# Altium footprint library Specific Footprints.PcbLib: 54 footprints (part 3 of 4)
Each footprint in its own frame and in the unit in brackets; x right, y up, seen from the top. Pads: shape width x height; smd on the part's side, far side on the other; paste and mask are expansions set on the pad; w line width, h text height; cw(c..) or ccw(c..) is an arc to the next point about the centre after c.
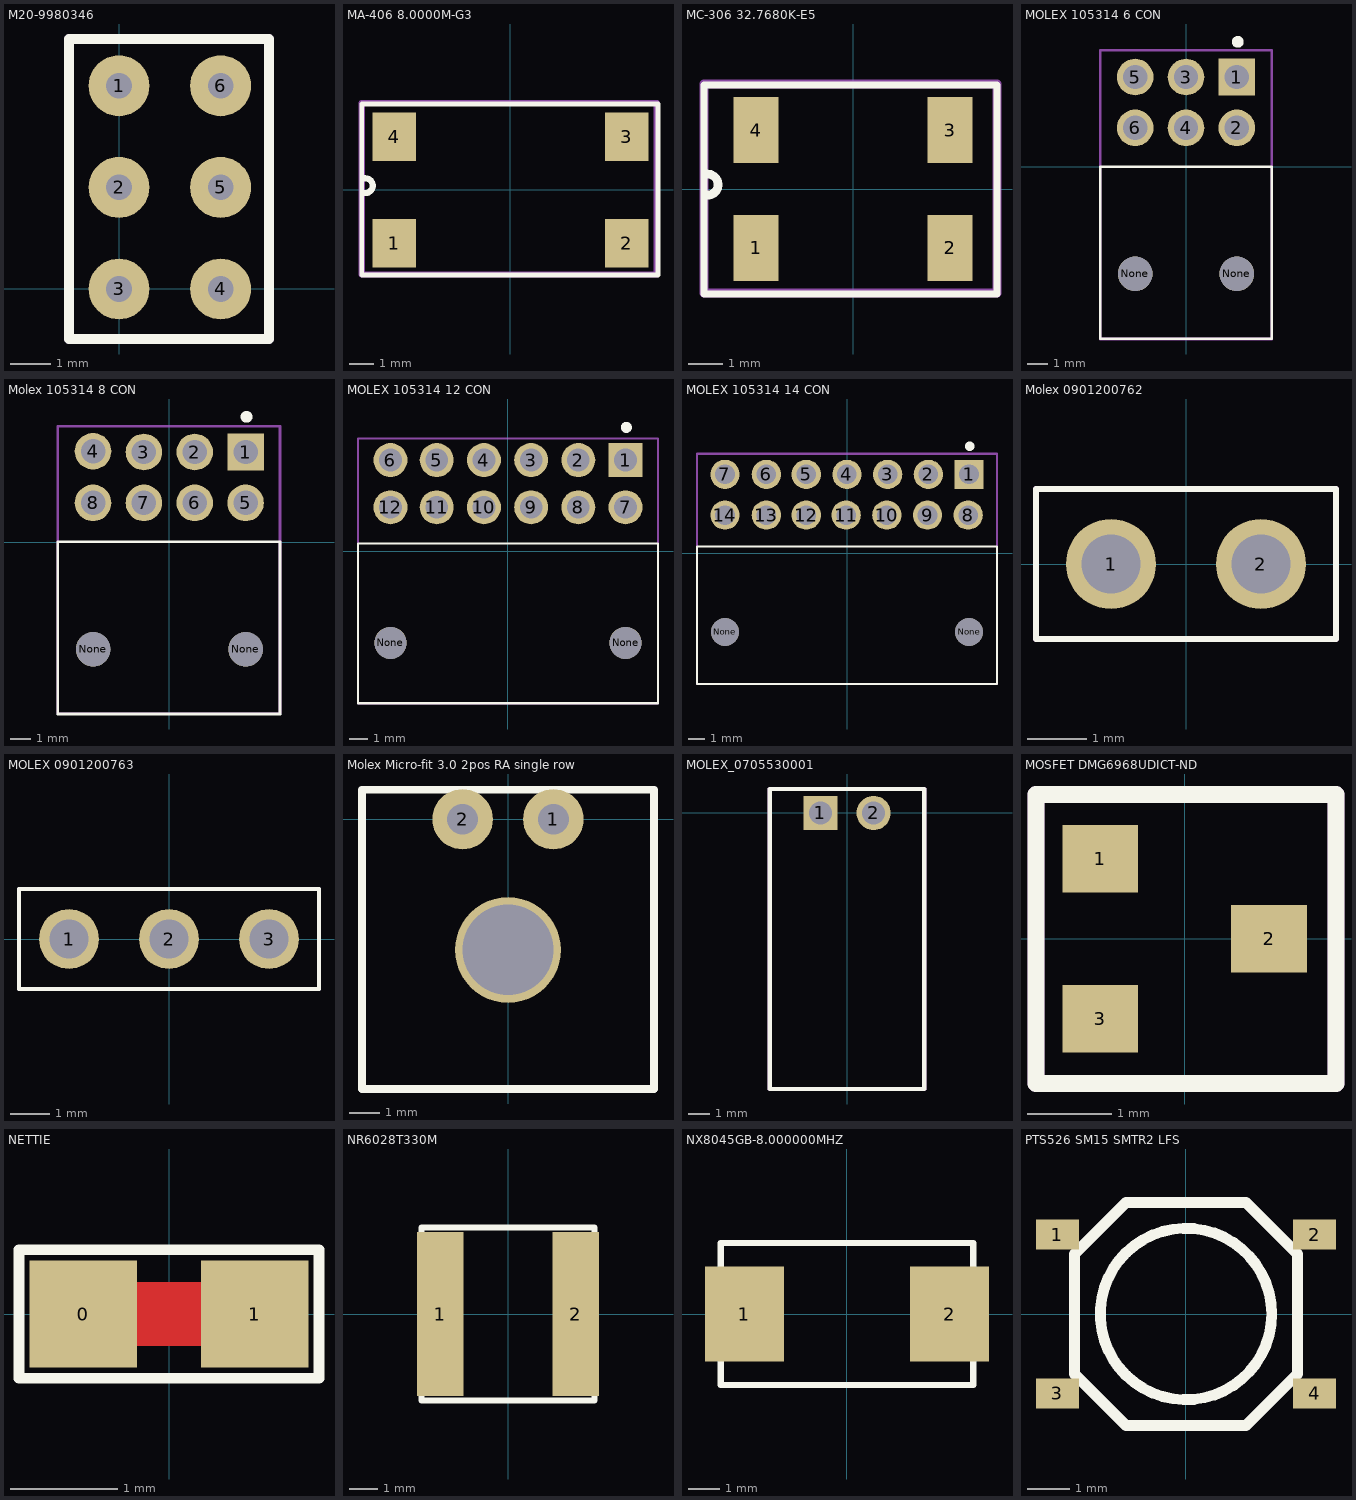
[diagram p2: the footprints below, top view; thin cyan lines are the x and y axes]

## M20-9980346 [mil]
pads (6):
  round 60 hole 25.2: 1(0,200) 2(0,100) 3(0,0) 4(100,0) 5(100,100) 6(100,200)
Top Overlay:
  lines w10: -49.21,-49.21 147.64,-49.21 147.64,-39.37 147.64,246.06 -49.21,246.06 -49.21,-49.21
Mechanical 5:
  lines w10: -49.21,-49.21 147.64,-49.21 147.64,246.06 -49.21,246.06 -49.21,-49.21
  text "'.Designator'" at 59.06,-9.84 h19.68

## MA-406 8.0000M-G3 [mm] "MA-406 8.0000M-G3"
pads (4):
  rect 1.8x2 smd: 1(-4.8,-2.2) 2(4.8,-2.2) 3(4.8,2.2) 4(-4.8,2.2)
Top Overlay:
  lines w0.2: -6.15,-3.525 6.1,-3.525 6.1,3.55 -6.15,3.55 -6.15,0.9 -6.15,-3.525
  lines w0.254: -6.013,-0.129 ccw(c-6,0.175) -6.013,0.479
Mechanical 5:
  lines w0.254: -6.15,-3.5 -6.15,3.6 6.05,3.6 6.05,-3.5 -6.15,-3.5
  text "'.Designator'" at -2.025,-0.45 h0.35
3D body "Crystal_SMD_SeikoEpson_MA406-4Pin_11.7x4.0mm.step": height 3.7, standoff 0, extent -5.775,-2.35 5.925,2.45

## MC-306 32.7680K-E5 [mm] "CRYSTAL 32.7680 KHZ 6.0PF SMD"
pads (4):
  rect 1.3x1.9 smd: 1(-2.8,-1.7) 2(2.8,-1.7) 3(2.8,1.7) 4(-2.8,1.7)
Top Overlay:
  lines w0.2: -4.3,-3.025 -4.3,-0.3 -4.3,3 4.15,3 4.15,-3.025 -4.3,-3.025
  lines w0.254: -4.212,-0.179 ccw(c-4.2,0.125) -4.212,0.429
Mechanical 5:
  lines w0.254: -4.3,-3 4.15,-3 4.15,3.025 -4.3,3.025 -4.3,-3
  text "'.Designator'" at -2.025,-0.45 h0.7
3D body "User Library-mc-306 crystal.step": height 2.39, standoff -0.18, extent -4.075,-1.775 3.925,2.025

## MOLEX 105314 6 CON [mm]
pads (8):
  rect 1.8x1.8 hole 1.2: 1(2.5,4.408)
  round 1.8 hole 1.2: 2(2.5,1.908) 3(0,4.408) 4(0,1.908) 5(-2.5,4.408) 6(-2.5,1.908)
  round 1.7 hole 1.7 unplated: None(-2.5,-5.272) None(2.5,-5.272)
Top Overlay:
  circle w0.3: c2.547,6.138 r0.14
  lines w0.127: -4.22,-8.472 -4.22,-0.012 4.22,-0.012 4.22,-8.472 -4.22,-8.472
Mechanical 5:
  lines w0.127: -4.22,-8.475 4.22,-8.475 4.22,5.715 -4.22,5.715 -4.22,-8.475
  text "'.Designator'" at -3.81,-4.826 h0.71
3D body "MOLEX 105314 11 06 CON.stp": height 8.85, standoff -3.49, extent -4.22,-9.869 4.22,4.789

## Molex 105314 8 CON [mm]
pads (10):
  rect 1.8x1.8 hole 1.2: 1(3.75,4.441)
  round 1.8 hole 1.2: 2(1.25,4.441) 3(-1.25,4.441) 4(-3.75,4.478) 5(3.75,1.941) 6(1.25,1.941) 7(-1.25,1.941) 8(-3.75,1.941)
  round 1.7 hole 1.7 unplated: None(-3.75,-5.26) None(3.75,-5.26)
Top Overlay:
  circle w0.3: c3.797,6.171 r0.14
  lines w0.127: 5.441,-8.44 5.441,0.02 ; 5.449,-8.439 -5.481,-8.439 -5.481,0.021 5.449,0.021
Mechanical 5:
  lines w0.127: -5.481,-8.433 5.441,-8.433 5.441,5.715 -5.481,5.715 -5.481,-8.433
  text "'.Designator'" at -3.937,-4.191 h0.71
3D body "1053141208.stp": height 8.85, standoff -3.49, extent -5.47,-9.881 5.47,4.777

## MOLEX 105314 12 CON [mm]
pads (14):
  rect 1.8x1.8 hole 1.2: 1(6.225,4.84)
  round 1.8 hole 1.2: 2(3.725,4.84) 3(1.225,4.84) 4(-1.275,4.84) 5(-3.775,4.84) 6(-6.225,4.84) 7(6.225,2.34) 8(3.725,2.34) 9(1.225,2.34) 10(-1.275,2.34) 11(-3.775,2.34) 12(-6.225,2.34)
  round 1.7 hole 1.7 unplated: None(-6.225,-4.84) None(6.225,-4.84)
Top Overlay:
  circle w0.3: c6.272,6.57 r0.14
  lines w0.127: -7.945,-8.04 -7.945,0.42 7.945,0.42 7.945,-8.04 -7.945,-8.04
Mechanical 5:
  lines w0.127: -7.945,-8.038 7.945,-8.038 7.945,5.983 -7.945,5.983 -7.945,-8.038
  text "'.Designator'" at -2.411,-4.05 h0.71
3D body "MOLEX 105314 11 12 CON.stp": height 9.15, standoff -3.19, extent -7.968,-9.474 7.972,5.184

## MOLEX 105314 14 CON [mm]
pads (16):
  rect 1.8x1.8 hole 1.2: 1(7.496,4.84)
  round 1.8 hole 1.2: 2(4.996,4.84) 3(2.496,4.84) 4(-0.004,4.84) 5(-2.504,4.84) 6(-4.954,4.84) 7(-7.496,4.84) 8(7.446,2.34) 9(4.946,2.34) 10(2.446,2.34) 11(-0.054,2.34) 12(-2.504,2.34) 13(-4.954,2.34) 14(-7.496,2.34)
  round 1.7 hole 1.7 unplated: None(-7.496,-4.84) None(7.496,-4.84)
Top Overlay:
  circle w0.3: c7.543,6.57 r0.14
  lines w0.127: -9.216,-8.04 -9.216,0.42 -7.998,0.42 9.216,0.42 9.216,-8.04 -9.216,-8.04
Mechanical 5:
  lines w0.127: -9.216,-8.038 9.216,-8.038 9.216,6.11 -2.308,6.11 -9.216,6.11 -9.216,-8.038
  text "'.Designator'" at -3.807,-3.923 h0.71
3D body "MOLEX 105314 11 14 CON.stp": height 9.15, standoff -3.19, extent -9.217,-9.474 9.223,5.184

## Molex 0901200762 [mil]
pads (2):
  round 60 hole 39.37: 1(-50,0) 2(50,0)
Top Overlay:
  lines w3.94: -5,50 100,50 100,-50 -100,-50 -100,50 0,50
Mechanical 5:
  lines w3.94: -5,50 100,50 100,-50 -100,-50 -100,50 0,50
  text "'.Designator'" at -89,-10 h19.68
3D body "Molex 901200762.stp": height 364.67, standoff -112.37, extent -100,-49.21 100,49.21

## MOLEX 0901200763 [mil]
pads (3):
  round 60 hole 39.37: 1(-100,0) 2(0,0) 3(100,0)
Top Overlay:
  lines w3.94: -55,50 150,50 150,-50 -150,-50 -150,50 -50,50
Mechanical 5:
  lines w3.94: -55,50 150,50 150,-50 -150,-50 -150,50 -50,50
  text "'.Designator'" at -135,-10 h28
3D body "901200763.stp": height 364.67, standoff -112.38, extent -150,-49.21 150,49.21

## Molex Micro-fit 3.0 2pos RA single row [mm]
pads (3):
  round 2 hole 1.02: 1(1.5,0) 2(-1.5,0)
  round 3.5 hole 3: ""(0,-4.32)
Top Overlay:
  lines w0.254: -4.825,-8.92 4.825,-8.92 4.825,0.98 -4.825,0.98 -4.825,-8.92
3D body "436500200.stp": height 5.58, standoff -3.33, extent -4.825,-8.95 4.825,0.95

## MOLEX_0705530001 [mm]
pads (2):
  rect 1.635x1.635 hole 1.09: 1(-1.27,0)
  round 1.635 hole 1.09: 2(1.27,0)
Top Overlay:
  lines w0.2: -3.685,-13.173 -1.843,-13.173 1.843,-13.173 3.685,-13.173 3.685,1.143 -3.685,1.143 -3.685,-13.081
Mechanical 5:
  lines w0.2: -3.685,-13.173 -1.843,-13.173 1.843,-13.173 3.685,-13.173 3.685,1.143 -3.685,1.143 -3.685,-13.081
  text "'.Designator'" at -3.81,-5.715 h0.7
3D body "705530001.stp": height 6.62, standoff -3.67, extent -3.683,-12.89 3.683,0.698

## MOSFET DMG6968UDICT-ND [mm]
pads (3):
  rect 0.9x0.8 smd: 1(-1,0.95) 2(1,0) 3(-1,-0.95)
Top Overlay:
  lines w0.2: -1.762,-1.717 1.794,-1.717 1.794,1.712 -1.762,1.712 -1.762,-1.717
Mechanical 5:
  lines w0.2: -1.762,-1.717 1.794,-1.717 1.794,1.712 -1.762,1.712 -1.762,-1.717
  text "'.Designator'" at -1.508,-0.32 h0.5
3D body "SOT23-3.stp": height 1.2, standoff 0.02, extent -1.402,-1.49 1.434,1.51

## NETTIE [mm]
pads (2):
  rect 1x1 smd paste+0 mask+0: 0(-0.8,0) 1(0.8,0)
Top Layer:
  rectangle: -1,-0.3 1,0.3
Top Overlay:
  lines w0.1: -1.4,-0.6 -1.4,0.6 1.4,0.6 1.4,-0.6 -1.4,-0.6

## NR6028T330M [mil]
pads (2):
  rect 63x224 smd: 1(-92.5,0) 2(92.5,0)
Top Overlay:
  lines w7.87: -118.11,-118.11 -118.11,118.11 118.11,118.11 118.11,-118.11 -118.11,-118.11

## NX8045GB-8.000000MHZ [mm]
pads (2):
  rect 2.5x3 smd: 1(-3.25,0) 2(3.25,0)
Top Overlay:
  lines w0.2: -4,-2.25 -4,2.25 4,2.25 4,-2.25 -4,-2.25

## PTS526 SM15 SMTR2 LFS [mm]
pads (4):
  rect 1x0.7 smd: 1(-3,1.85) 2(3,1.85) 3(-3,-1.85) 4(3,-1.85)
Top Overlay:
  circle w0.254: c0,0 r2
  lines w0.254: -2.6,-1.4 -1.4,-2.6 1.4,-2.6 2.6,-1.4 2.6,1.4 1.4,2.6 -1.4,2.6 -2.6,1.4 -2.6,-1.4